# EAGLE library part MCP79410 (library IC)
Digi-Key Part Number MCP79410-I/SN-ND Manufacturer Part Number MCP79410-I/SN Description IC RTC ALARM NVSRAM 8SOIC Microchip MCP79410 The MCP7941X series of low-power Real-Time Clocks (RTC) uses digital timing compensation for an accurate clock/calendar, a programmable output control for versatility, a power sense circuit that automatically switches to the backup supply, and nonvolatile memory for data storage. Using a low-cost 32.768 kHz crystal, it tracks time using several internal registers. For communication, the MCP7941X uses the I2C? bus.
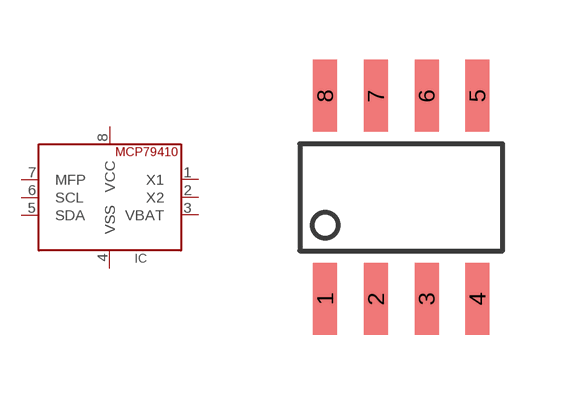
[diagram p188: symbol with the pads of SOIC8; footprint SOIC8]

Designator prefix IC

## MCP79410-SOIC8  [SOIC8]
1  X1
2  X2
3  VBAT  pwr
4  VSS  pwr
5  SDA
6  SCL
7  MFP
8  VCC  pwr

## Footprint SOIC8 (pad centres in mm)
8 pin SOIC 150-mil package
smd 0.6 x 1.8: 1 -1.905,-2.54; 2 -0.635,-2.54; 3 0.635,-2.54; 4 1.905,-2.54; 5 1.905,2.54; 6 0.635,2.54; 7 -0.635,2.54; 8 -1.905,2.54